# Altium schematic symbol library PCM12SMTR.SchLib: 1 symbol
Pins are listed as number, name and electrical type; pins without a type are passive.

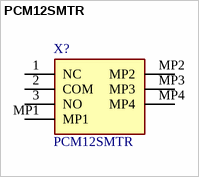
[diagram p0: symbol PCM12SMTR]

## PCM12SMTR
designator X?
Slide Switches 0.3A SPDT ON-ON; Manufacturer_Name: C & K COMPONENTS; Geometry.Height: 1.4mm; Mouser Part Number: 611-PCM12SMTR; Mouser Price/Stock: https://www.mouser.co.uk/ProductDetail/CK/PCM12SMTR?qs=mfFuHy8STfL3qrPSfCHA7w%3D%3D; Manufacturer_Part_Number: PCM12SMTR; Datasheet Link: https://www.ckswitches.com/media/1424/pcm.pdf
footprint PCM12SMTR
pins: 1 NC, 2 COM, 3 NO, MP1, MP2, MP3, MP4